# Altium footprint library transformer-pulse.PCBLIB: 1 footprints
Each footprint in its own frame and in the unit in brackets; x right, y up, seen from the top. Pads: shape width x height; smd on the part's side, far side on the other; paste and mask are expansions set on the pad; w line width, h text height; cw(c..) or ccw(c..) is an arc to the next point about the centre after c.
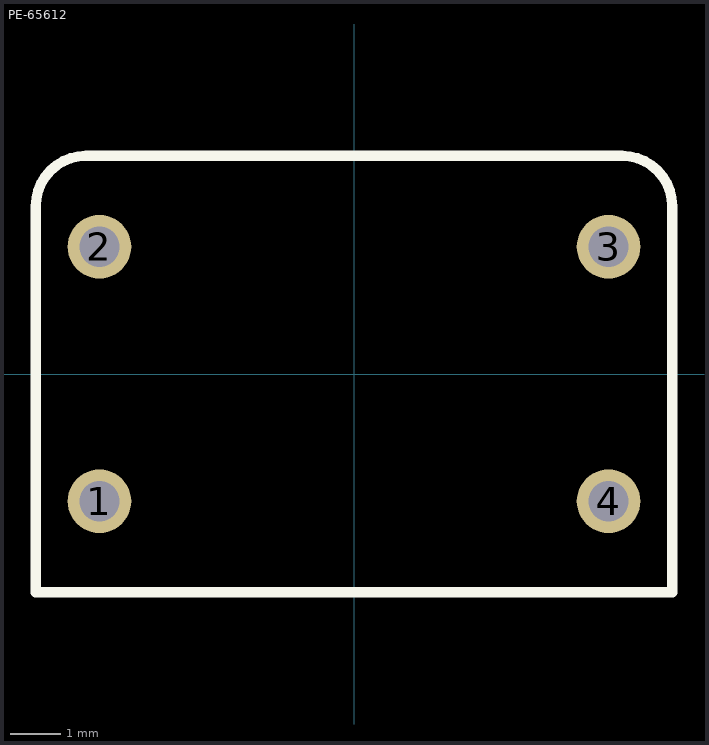
[diagram p0: the footprint, top view; thin cyan lines are the x and y axes]

## PE-65612 [mil]
pads (4):
  round 50 hole 31.5: 1(-200,-100) 2(-200,100) 3(200,100) 4(200,-100)
Top Overlay:
  lines w8: -250,-171.46 250,-171.46 250,132.09 ccw(c210.63,132.09) 210.63,171.46 -210.63,171.46 ccw(c-210.63,132.09) -250,132.09 -250,-171.46